# EAGLE library part FM93C66 (library memory)
4096-Bit Serial CMOS EEPROM (MICROWIRE TM Synchronous Bus) Source: www.fairchildsemi.com
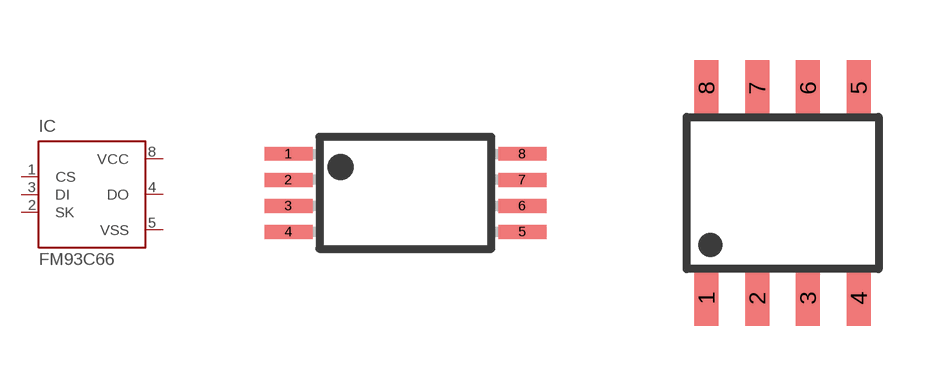
[diagram p70: symbol with the pads of TSSOP8; footprints TSSOP8, M8]

Designator prefix IC

## FM93C66MT8  [TSSOP8]
1  CS  in
2  SK  in
3  DI  in
4  DO  hiz
5  VSS  pwr
8  VCC  pwr

## FM93C66M  [M8]
Pads as for TSSOP8

## FM93C66N  [DIL08]
Pads as for TSSOP8

## Footprint TSSOP8 (pad centres in mm)
8-Pin Molded TSSOP, JEDEC (MT8) Package Number MTC08 Source: www.fairchildsemi.com
smd 1.2 x 0.35: 1 -2.925,0.975; 2 -2.925,0.325; 3 -2.925,-0.325; 4 -2.925,-0.975; 5 2.925,-0.975; 6 2.925,-0.325; 7 2.925,0.325; 8 2.925,0.975

## Footprint M8 (pad centres in mm)
Molded Package, Small Outline, 0.15 Wide, 8-Lead (M8) Package Number M08A Source: www.fairchildsemi.com
smd 0.6 x 1.4: 1 -1.905,-2.63; 2 -0.635,-2.63; 3 0.635,-2.63; 4 1.905,-2.63; 5 1.905,2.63; 6 0.635,2.63; 7 -0.635,2.63; 8 -1.905,2.63

## Footprint DIL08 (pad centres in mm)
Dual In Line Package
drill 0.813 long: 1 -3.81,-3.81; 2 -1.27,-3.81; 3 1.27,-3.81; 4 3.81,-3.81; 5 3.81,3.81; 6 1.27,3.81; 7 -1.27,3.81; 8 -3.81,3.81